# Altium footprint library PcbLib2.PcbLib: 45 footprints (part 1 of 3)
Each footprint in its own frame and in the unit in brackets; x right, y up, seen from the top. Pads: shape width x height; smd on the part's side, far side on the other; paste and mask are expansions set on the pad; w line width, h text height; cw(c..) or ccw(c..) is an arc to the next point about the centre after c.
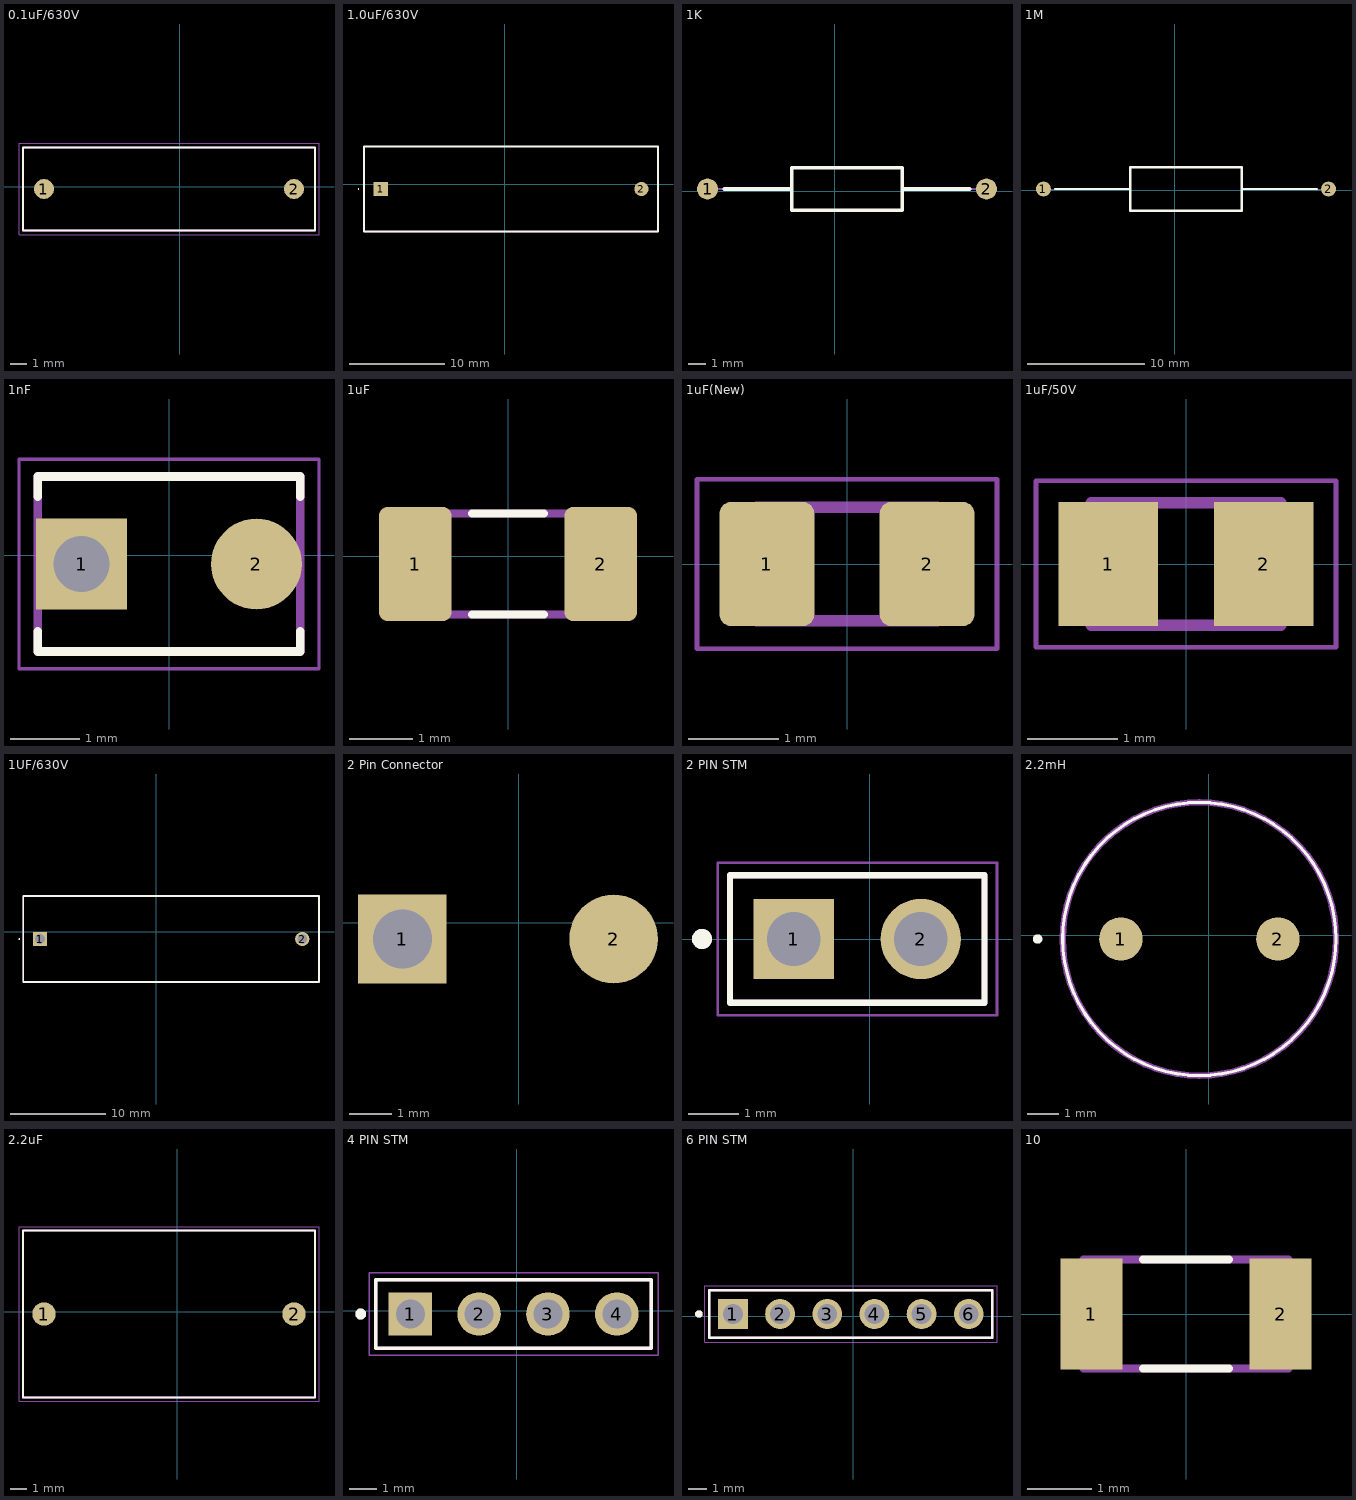
[diagram p0: the footprints below, top view; thin cyan lines are the x and y axes]

## 0.1uF/630V [mm]
pads (2):
  round 1.2 smd: 1(-8.135,-0.127) 2(6.865,-0.127)
Top Overlay:
  lines w0.127: -9.385,-2.627 -9.385,2.373 8.115,2.373 8.115,-2.627 -9.385,-2.627
Mechanical 13:
  lines w0.127: -9.385,-2.627 8.115,-2.627 8.115,2.373 -9.385,2.373 -9.385,-2.627
Mechanical 15:
  lines w0.05: -9.635,-2.877 8.365,-2.877 8.365,2.623 -9.635,2.623 -9.635,-2.877
3D body "ECW-FE2J104K.STEP": height 10.5, standoff -20, extent -9.385,-2.627 8.115,2.373

## 1.0uF/630V [mm] "ECW-FE2J105QD"
pads (2):
  rect 1.5x1.5 smd: 1(-13.081,-0.508)
  round 1.5 smd: 2(14.419,-0.508)
Top Overlay:
  lines w0.1: -15.481,-0.508 cw(c-15.431,-0.508) -15.381,-0.508 cw(c-15.431,-0.508) -15.481,-0.508
  lines w0.2: -14.831,-5.008 -14.831,3.992 16.169,3.992 16.169,-5.008 -14.831,-5.008
Mechanical 15:
  lines w0.1: -14.831,-5.008 -14.831,3.992 16.169,3.992 16.169,-5.008 -14.831,-5.008
3D body "ECW-FE2J105QD.stp": height 19.6, standoff -5, extent -14.831,-5.008 16.169,3.992

## 1K [mm]
pads (2):
  round 1.2 all layers, no hole: 1(-7.239,0.127) 2(8.661,0.127)
Top Overlay:
  lines w0.2: -6.289,0.127 -2.439,0.127 ; 3.861,0.127 7.711,0.127 ; -2.439,-1.073 3.861,-1.073 3.861,1.327 -2.439,1.327 -2.439,-1.073
Mechanical 15:
  lines w0.1: -7.239,0.127 -2.439,0.127 ; 3.861,0.127 8.661,0.127 ; -2.439,-1.073 3.861,-1.073 3.861,1.327 -2.439,1.327 -2.439,-1.073
3D body "MF0207FRE52-1K.stp": height 2.6, standoff -2.6, extent -7.539,-1.164 8.961,1.418

## 1M [mm]
pads (2):
  round 1.275 all layers, no hole: 1(-11.176,0.127) 2(13.124,0.127)
Top Overlay:
  lines w0.2: -10.188,0.127 -3.791,0.127 ; 5.739,0.127 12.136,0.127 ; -3.791,-1.713 -3.791,1.967 5.739,1.967 5.739,-1.713 -3.791,-1.713
Mechanical 15:
  lines w0.1: -11.176,0.127 -3.791,0.127 ; 5.739,0.127 13.124,0.127 ; -3.791,-1.713 -3.791,1.967 5.739,1.967 5.739,-1.713 -3.791,-1.713
3D body "PTF651M0000BYEA.stp": height 4.08, standoff -4.09, extent -11.496,-1.915 13.394,2.169

## 1nF [mil]
pads (2):
  rect 51.89x51.89 / inner round 51.89 / far side rect 51.89x51.89 hole 31.89 mask+4.02: 1(-50,-5)
  round 51.89 smd mask+4.02: 2(50,-5)
Top Overlay:
  lines w5: -75,-43.54 -75,-55 75,-55 75,-43.54 ; -75,33.54 -75,45 75,45 75,33.54
Mechanical 13:
  lines w5: -75,-55 75,-55 75,45 -75,45 -75,-55
Mechanical 15:
  lines w1.97: -85.79,-64.84 85.79,-64.84 85.79,54.84 -85.79,54.84 -85.79,-64.84
3D body "step_temp.STEP": height 183.46, standoff -275.59, extent -75,-55 75,45

## 1uF [mm] "C1206C105K1RACTU"
pads (2):
  rrect25% 1.16x1.82 smd paste+0 mask+0.102: 1(-1.475,-0.127) 2(1.475,-0.127)
Top Overlay:
  lines w0.127: -0.575,-0.927 0.575,-0.927 ; -0.575,0.673 0.575,0.673
Mechanical 13:
  lines w0.127: -1.6,-0.927 -1.6,0.673 1.6,0.673 1.6,-0.927 -1.6,-0.927
3D body "C1206C105K1RACTU.STEP": height 1.59, standoff -0.01, extent -1.6,-1.016 1.6,0.784

## 1uF(New) [mm]
pads (2):
  rrect25% 1.05x1.38 smd: 1(-0.888,0) 2(0.888,0)
Mechanical 13:
  lines w0.127: -1,-0.63 -1,0.63 1,0.63 1,-0.63 -1,-0.63
Mechanical 15:
  lines w0.05: -1.663,-0.94 -1.663,0.94 1.663,0.94 1.663,-0.94 -1.663,-0.94
3D body "step_temp.STEP": height 1.35, standoff 0, extent -1,-0.625 1,0.625

## 1uF/50V [mm]
pads (2):
  rect 1.1x1.38 smd: 1(-0.863,0) 2(0.863,0)
Mechanical 13:
  lines w0.127: -1.05,-0.68 1.05,-0.68 1.05,0.68 -1.05,0.68 -1.05,-0.68
Mechanical 15:
  lines w0.05: -1.665,-0.925 1.665,-0.925 1.665,0.925 -1.665,0.925 -1.665,-0.925
3D body "step_temp.STEP": height 1.35, standoff 0, extent -1,-0.625 1,0.625

## 1UF/630V [mm] "ECW-FE2J105Q5"
pads (2):
  rect 1.5x1.5 hole 1: 1(-12.192,-0.762)
  round 1.5 hole 1: 2(15.308,-0.762)
Top Overlay:
  lines w0.1: -14.392,-0.762 ccw(c-14.342,-0.762) -14.292,-0.762 ccw(c-14.342,-0.762) -14.392,-0.762
  lines w0.2: -13.942,-5.262 17.058,-5.262 17.058,3.738 -13.942,3.738 -13.942,-5.262
Mechanical 15:
  lines w0.1: -13.942,-5.262 17.058,-5.262 17.058,3.738 -13.942,3.738 -13.942,-5.262
3D body "ECW-FE2J105Q5.stp": height 19.6, standoff -5, extent -13.942,-5.262 17.058,3.738

## 2 Pin Connector [mm] "KF301-2P"
pads (2):
  rect 2.1x2.1 / inner round 2.1 / far side rect 2.1x2.1 hole 1.4: 1(-2.754,-0.381)
  round 2.1 smd: 2(2.246,-0.381)
3D body "step_temp.STEP": height 10, standoff -4.5, extent -5.854,-3.623 4.746,3.877

## 2 PIN STM [mm]
pads (2):
  rect 1.605x1.605 / inner round 1.605 / far side rect 1.605x1.605 hole 1.07: 1(-1.524,0)
  round 1.605 hole 1.07: 2(1.016,0)
Top Overlay:
  circle w0.2: c-3.354,0 r0.1
  lines w0.127: -2.794,-1.27 2.286,-1.27 2.286,1.27 -2.794,1.27 -2.794,-1.27
Mechanical 13:
  circle w0.2: c-3.354,0 r0.1
  lines w0.127: -2.794,-1.27 2.286,-1.27 2.286,1.27 -2.794,1.27 -2.794,-1.27
Mechanical 15:
  lines w0.05: -3.044,-1.52 2.536,-1.52 2.536,1.52 -3.044,1.52 -3.044,-1.52
3D body "step_temp.STEP": height 8.74, standoff -3, extent -2.794,-1.27 2.286,1.27

## 2.2mH [mil]
pads (2):
  round 54.37 smd: 1(-110,-5) 2(86.85,-5)
Top Overlay:
  lines w3.94: -182.83,-5 ccw(c-11.57,-5) 159.69,-5 ccw(c-11.57,-5) -182.83,-5
  lines w7.87: -216.3,-5 ccw(c-214.33,-5) -212.36,-5 ; -216.3,-5 cw(c-214.33,-5) -212.36,-5 ; -216.3,-5 ccw(c-214.33,-5) -212.36,-5
Mechanical 15:
  lines w7.87: -182.83,-5 ccw(c-11.57,-5) 159.69,-5 ccw(c-11.57,-5) -182.83,-5
3D body "RLB0914-222KL.stp": height 515.75, standoff -196.85, extent -182.83,-175.78 159.69,165.78

## 2.2uF [mm]
pads (2):
  round 1.4 smd: 1(-8.008,-0.127) 2(6.992,-0.127)
Top Overlay:
  lines w0.127: -9.258,-5.127 8.242,-5.127 8.242,4.873 -9.258,4.873 -9.258,-5.127
Mechanical 13:
  lines w0.127: -9.258,-5.127 -9.258,4.873 8.242,4.873 8.242,-5.127 -9.258,-5.127
Mechanical 15:
  lines w0.05: -9.508,-5.377 -9.508,5.123 8.492,5.123 8.492,-5.377 -9.508,-5.377
3D body "ECW-FE2W225KA.STEP": height 15.5, standoff -4.5, extent -9.258,-5.127 8.242,4.873

## 4 PIN STM [mm]
pads (4):
  rect 1.605x1.605 / inner round 1.605 / far side rect 1.605x1.605 hole 1.07: 1(-3.937,-0.127)
  round 1.605 hole 1.07: 2(-1.397,-0.127) 3(1.143,-0.127) 4(3.683,-0.127)
Top Overlay:
  circle w0.2: c-5.767,-0.127 r0.1
  lines w0.127: -5.207,-1.397 4.953,-1.397 4.953,1.143 -5.207,1.143 -5.207,-1.397
Mechanical 13:
  circle w0.2: c-5.767,-0.127 r0.1
  lines w0.127: -5.207,-1.397 4.953,-1.397 4.953,1.143 -5.207,1.143 -5.207,-1.397
Mechanical 15:
  lines w0.05: -5.457,-1.647 5.203,-1.647 5.203,1.393 -5.457,1.393 -5.457,-1.647
3D body "step_temp.STEP": height 8.74, standoff -3, extent -5.207,-1.397 4.953,1.143

## 6 PIN STM [mm]
pads (6):
  rect 1.605x1.605 / inner round 1.605 / far side rect 1.605x1.605 hole 1.07: 1(-6.477,0.127)
  round 1.605 hole 1.07: 2(-3.937,0.127) 3(-1.397,0.127) 4(1.143,0.127) 5(3.683,0.127) 6(6.223,0.127)
Top Overlay:
  circle w0.2: c-8.307,0.127 r0.1
  lines w0.127: -7.747,-1.143 -7.747,1.397 7.493,1.397 7.493,-1.143 -7.747,-1.143
Mechanical 13:
  circle w0.2: c-8.307,0.127 r0.1
  lines w0.127: -7.747,-1.143 -7.747,1.397 7.493,1.397 7.493,-1.143 -7.747,-1.143
Mechanical 15:
  lines w0.05: -7.997,-1.393 -7.997,1.647 7.743,1.647 7.743,-1.393 -7.997,-1.393
3D body "step_temp.STEP": height 8.74, standoff -3, extent -7.747,-1.143 7.493,1.397

## 10 [mm] "RC1206FR-0710RL"
pads (2):
  rect 0.97x1.73 smd paste+0 mask+0.102: 1(-1.48,0) 2(1.48,0)
Top Overlay:
  lines w0.127: -0.67,-0.85 0.67,-0.85 ; -0.67,0.85 0.67,0.85
Mechanical 13:
  lines w0.127: -1.6,-0.85 -1.6,0.85 1.6,0.85 1.6,-0.85 -1.6,-0.85
3D body "step_temp.STEP": height 0.65, standoff 0, extent -1.55,-0.8 1.55,0.8